# Altium footprint library Battery_PSU.PcbLib: 33 footprints (part 3 of 3)
Each footprint in its own frame and in the unit in brackets; x right, y up, seen from the top. Pads: shape width x height; smd on the part's side, far side on the other; paste and mask are expansions set on the pad; w line width, h text height; cw(c..) or ccw(c..) is an arc to the next point about the centre after c.
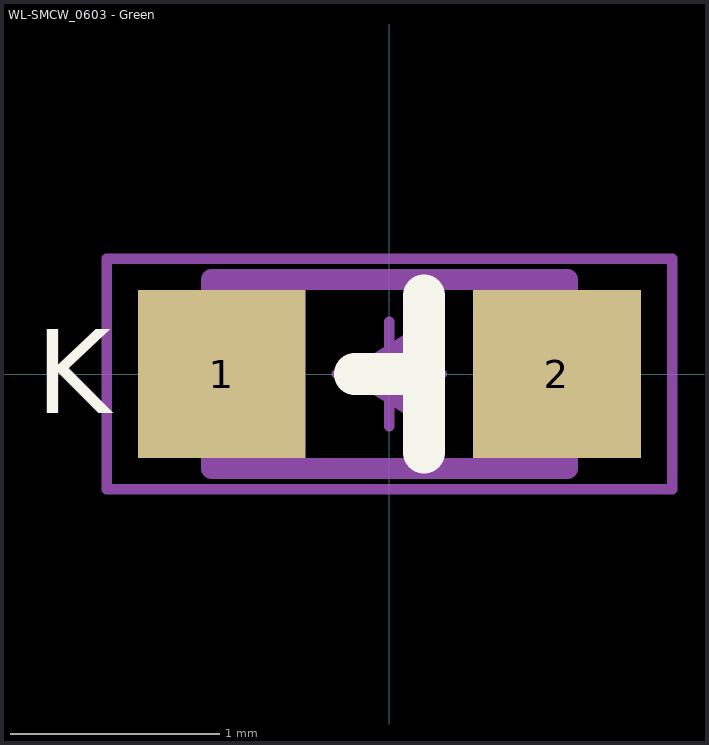
[diagram p2: the footprint, top view; thin cyan lines are the x and y axes]

## WL-SMCW_0603 - Green [mm] "SMD Mono-color Chip LED, body 1.6x0.8mm"
height 0.7
pads (2):
  rect 0.8x0.8 smd: 1(-0.8,0) 2(0.8,0)
Top Overlay:
  lines w0.2: -0.165,0 0.165,0 ; 0.165,-0.375 0.165,0.375
  text "K" at -1.687,-0.188 h0.4
Mechanical 11:
  region: -0.233,0 0.25,-0.3 0.25,0.3
  lines w0.1: -0.85,-0.45 0.85,-0.45 0.85,0.45 -0.85,0.45 -0.85,-0.45
  text ".designator" at -5,-0.25 h1
Mechanical 13:
  region: -0.233,0 0.25,-0.3 0.25,0.3
  lines w0.1: -0.85,-0.45 -0.85,0.45 0.85,0.45 0.85,-0.45 -0.85,-0.45
Mechanical 15:
  lines w0.05: -0.25,0 0.25,0 ; 0,-0.25 0,0.25 ; -1.35,-0.55 -1.35,0.55 1.35,0.55 1.35,-0.55 -1.35,-0.55
3D body "STEP-WL-SMCW-0603 Green.stp": height 0.7, standoff 0, extent -0.8,-0.4 0.8,0.4